# EAGLE library part TMR2S (library Zoli2_2015-02-22)
Regulated DC/DC converter, single output
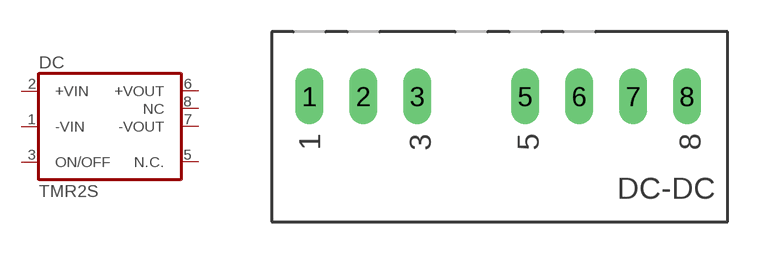
[diagram p29: symbol with the pads of TMR2P; footprint TMR2P]

Designator prefix DC

## TMR2S  [TMR2P]
1  -VIN  pwr
2  +VIN  pwr
3  ON/OFF
5  N.C.  nc
6  +VOUT  pwr
7  -VOUT  pwr
8  NC  nc

## Footprint TMR2P (pad centres in mm)
drill 0.813 long: 1 0,0; 2 2.54,0; 3 5.08,0; 5 10.16,0; 6 12.7,0; 7 15.24,0; 8 17.78,0